# Altium schematic symbol library jumper1.SCHLIB: 67 symbols
Pins are listed as number, name and electrical type; pins without a type are passive.

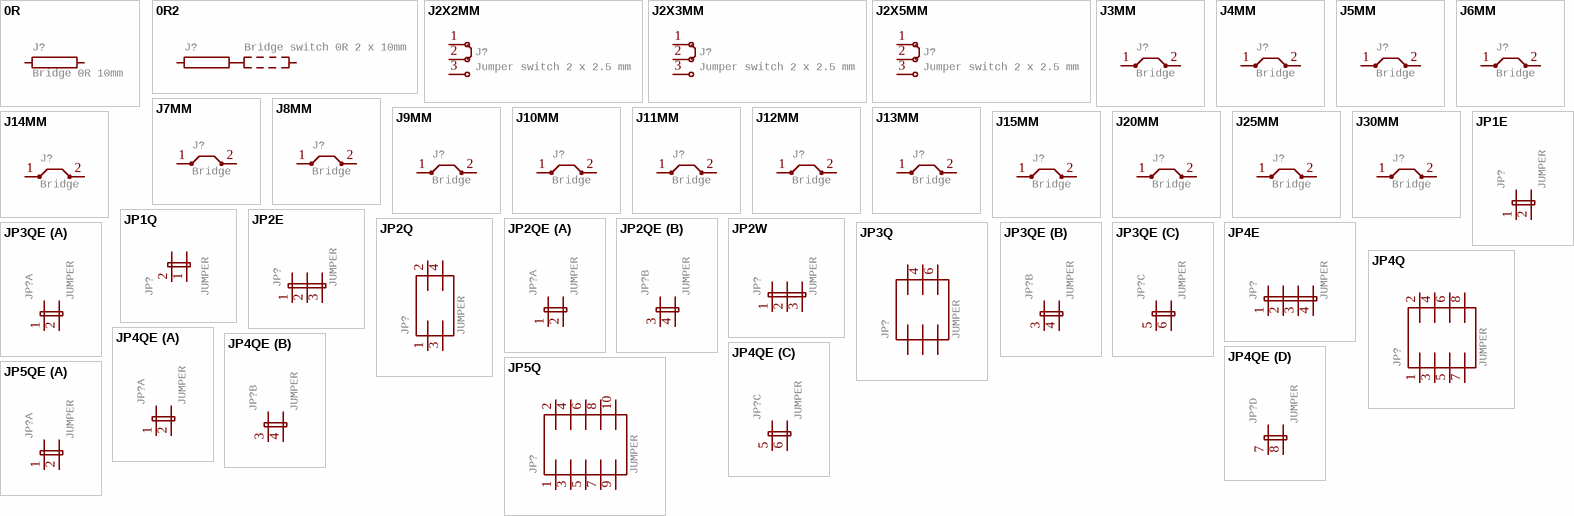
[diagram p0: symbols 0R to JP5QE]

## 0R
designator J?, comment Bridge 0R 10mm
GateName_1: 1; SymbolName_1: 0R; LibraryName: jumper; DeviceSetName: 0R; Package: 0R/10
footprint 0R/10
pins: 1, 2

## 0R2
designator J?, comment Bridge switch 0R 2 x 10mm
GateName_1: 1; SymbolName_1: 0R2; LibraryName: jumper; DeviceSetName: 0R2; Package: 0R2/10
footprint 0R2/10
pins: 1, 2, 3

## J2X2MM
designator J?, comment Jumper switch 2 x 2.5 mm
GateName_1: G$1; SymbolName_1: J_2; DeviceName: X2MM; DeviceSetName: J2; LibraryName: jumper; Package: 04C
footprint 04C
pins: 1, 2, 3

## J2X3MM
designator J?, comment Jumper switch 2 x 2.5 mm
GateName_1: G$1; SymbolName_1: J_2; DeviceName: X3MM; DeviceSetName: J2; LibraryName: jumper; Package: 03C
footprint 03C
pins: 1, 2, 3

## J2X5MM
designator J?, comment Jumper switch 2 x 2.5 mm
GateName_1: G$1; SymbolName_1: J_2; DeviceName: X5MM; DeviceSetName: J2; LibraryName: jumper; Package: 05C
footprint 05C
pins: 1, 2, 3

## J3MM
designator J?, comment Bridge
GateName_1: 1; SymbolName_1: J; DeviceName: 3MM; LibraryName: jumper; DeviceSetName: J; Package: 03
footprint 03
pins: 1, 2

## J4MM
designator J?, comment Bridge
GateName_1: 1; SymbolName_1: J; DeviceName: 4MM; LibraryName: jumper; DeviceSetName: J; Package: 04
footprint 04
pins: 1, 2

## J5MM
designator J?, comment Bridge
GateName_1: 1; SymbolName_1: J; DeviceName: 5MM; LibraryName: jumper; DeviceSetName: J; Package: 05
footprint 05
pins: 1, 2

## J6MM
designator J?, comment Bridge
GateName_1: 1; SymbolName_1: J; DeviceName: 6MM; LibraryName: jumper; DeviceSetName: J; Package: 06
footprint 06
pins: 1, 2

## J7MM
designator J?, comment Bridge
GateName_1: 1; SymbolName_1: J; DeviceName: 7MM; LibraryName: jumper; DeviceSetName: J; Package: 07
footprint 07
pins: 1, 2

## J8MM
designator J?, comment Bridge
GateName_1: 1; SymbolName_1: J; DeviceName: 8MM; LibraryName: jumper; DeviceSetName: J; Package: 08
footprint 08
pins: 1, 2

## J9MM
designator J?, comment Bridge
GateName_1: 1; SymbolName_1: J; DeviceName: 9MM; LibraryName: jumper; DeviceSetName: J; Package: 09
footprint 09
pins: 1, 2

## J10MM
designator J?, comment Bridge
GateName_1: 1; SymbolName_1: J; DeviceName: 10MM; LibraryName: jumper; DeviceSetName: J; Package: 10
footprint 10
pins: 1, 2

## J11MM
designator J?, comment Bridge
GateName_1: 1; SymbolName_1: J; DeviceName: 11MM; LibraryName: jumper; DeviceSetName: J; Package: 11
footprint 11
pins: 1, 2

## J12MM
designator J?, comment Bridge
GateName_1: 1; SymbolName_1: J; DeviceName: 12MM; LibraryName: jumper; DeviceSetName: J; Package: 12
footprint 12
pins: 1, 2

## J13MM
designator J?, comment Bridge
GateName_1: 1; SymbolName_1: J; DeviceName: 13MM; LibraryName: jumper; DeviceSetName: J; Package: 13
footprint 13
pins: 1, 2

## J14MM
designator J?, comment Bridge
GateName_1: 1; SymbolName_1: J; DeviceName: 14MM; LibraryName: jumper; DeviceSetName: J; Package: 14
footprint 14
pins: 1, 2

## J15MM
designator J?, comment Bridge
GateName_1: 1; SymbolName_1: J; DeviceName: 15MM; LibraryName: jumper; DeviceSetName: J; Package: 15
footprint 15
pins: 1, 2

## J20MM
designator J?, comment Bridge
GateName_1: 1; SymbolName_1: J; DeviceName: 20MM; LibraryName: jumper; DeviceSetName: J; Package: 20
footprint 20
pins: 1, 2

## J25MM
designator J?, comment Bridge
GateName_1: 1; SymbolName_1: J; DeviceName: 25MM; LibraryName: jumper; DeviceSetName: J; Package: 25
footprint 25
pins: 1, 2

## J30MM
designator J?, comment Bridge
GateName_1: 1; SymbolName_1: J; DeviceName: 30MM; LibraryName: jumper; DeviceSetName: J; Package: 30
footprint 30
pins: 1, 2

## JP1E
designator JP?, comment JUMPER
GateName_1: A; SymbolName_1: JP2E; DeviceSetName: JP1E; LibraryName: jumper; Package: JP1
footprint JP1
pins: 1, 2

## JP1Q
designator JP?, comment JUMPER
GateName_1: A; SymbolName_1: J1; DeviceSetName: JP1Q; LibraryName: jumper; Package: JP1
footprint JP1
pins: 1, 2

## JP2E
designator JP?, comment JUMPER
GateName_1: 1; SymbolName_1: JP3E; DeviceSetName: JP2E; LibraryName: jumper; Package: JP2
footprint JP2
pins: 1, 2, 3

## JP2Q
designator JP?, comment JUMPER
GateName_1: B1; SymbolName_1: J2; DeviceSetName: JP2Q; LibraryName: jumper; Package: JP2Q
footprint JP2Q
pins: 1, 2, 3, 4

## JP2QE
designator JP?, comment JUMPER
GateName_1: -1; SymbolName_1: JP2E; GateName_2: -2; DeviceSetName: JP2QE; SymbolName_2: JP2E; LibraryName: jumper; Package: JP2Q
footprint JP2Q
part A pins: 1, 2
part B pins: 3 1, 4 2

## JP2W
designator JP?, comment JUMPER
GateName_1: 1; SymbolName_1: JP3E; DeviceSetName: JP2W; LibraryName: jumper; Package: JP2W
footprint JP2W
pins: 1, 2, 3

## JP3Q
designator JP?, comment JUMPER
GateName_1: B; SymbolName_1: J3; DeviceSetName: JP3Q; LibraryName: jumper; Package: JP3Q
footprint JP3Q
pins: 1, 2, 3, 4, 5, 6

## JP3QE
designator JP?, comment JUMPER
GateName_1: -1; SymbolName_1: JP2E; GateName_2: -2; GateName_3: -3; DeviceSetName: JP3QE; SymbolName_2: JP2E; SymbolName_3: JP2E; LibraryName: jumper; Package: JP3Q
footprint JP3Q
part A pins: 1, 2
part B pins: 3 1, 4 2
part C pins: 5 1, 6 2

## JP4E
designator JP?, comment JUMPER
GateName_1: G$1; SymbolName_1: JP4E; LibraryName: jumper; DeviceSetName: JP4E; Package: JP4
footprint JP4
pins: 1, 2, 3, 4

## JP4Q
designator JP?, comment JUMPER
GateName_1: B; SymbolName_1: J4; DeviceSetName: JP4Q; LibraryName: jumper; Package: JP4Q
footprint JP4Q
pins: 1, 2, 3, 4, 5, 6, 7, 8

## JP4QE
designator JP?, comment JUMPER
GateName_1: -1; SymbolName_1: JP2E; GateName_2: -2; GateName_3: -3; GateName_4: -4; DeviceSetName: JP4QE; SymbolName_2: JP2E; SymbolName_3: JP2E; SymbolName_4: JP2E; LibraryName: jumper; Package: JP4Q
footprint JP4Q
part A pins: 1, 2
part B pins: 3 1, 4 2
part C pins: 5 1, 6 2
part D pins: 7 1, 8 2

## JP5Q
designator JP?, comment JUMPER
GateName_1: B; SymbolName_1: J5; DeviceSetName: JP5Q; LibraryName: jumper; Package: JP5Q
footprint JP5Q
pins: 1, 2, 3, 4, 5, 6, 7, 8, 9, 10

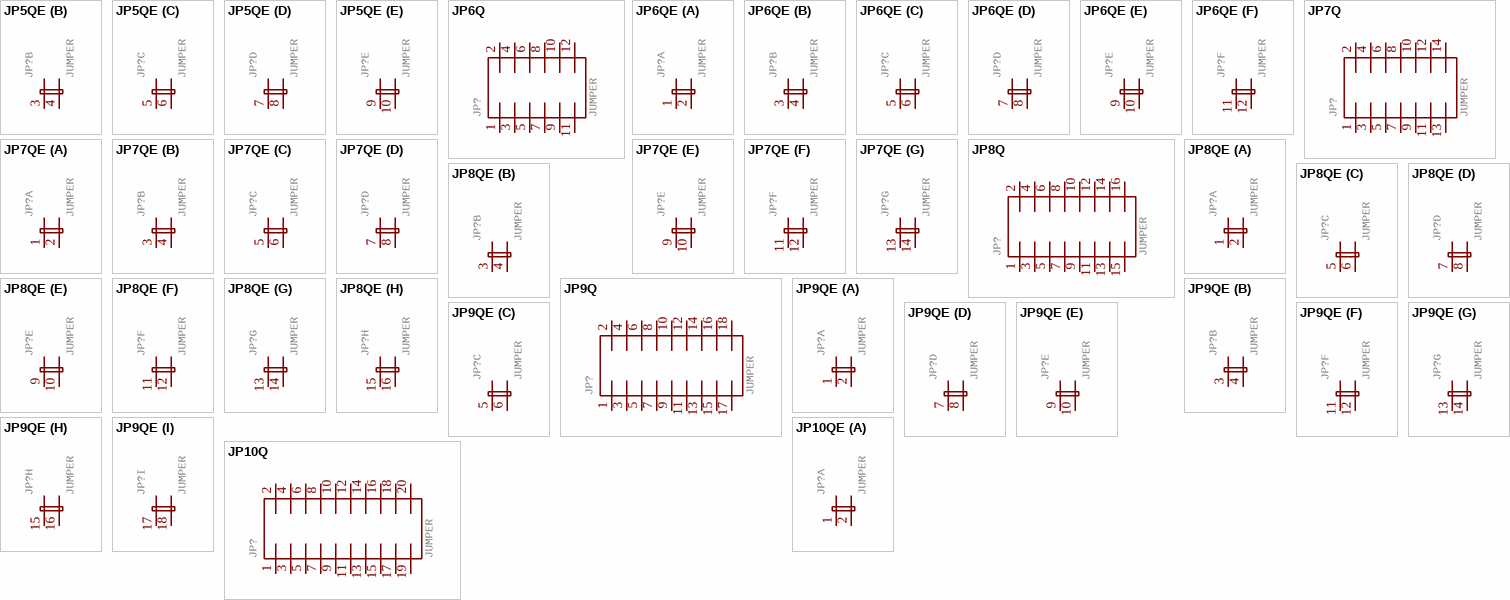
[diagram p1: symbols JP5QE to JP10QE]

## JP5QE
designator JP?, comment JUMPER
GateName_1: -1; SymbolName_1: JP2E; GateName_2: -2; GateName_3: -3; GateName_4: -4; GateName_5: -5; DeviceSetName: JP5QE; SymbolName_2: JP2E; SymbolName_3: JP2E; SymbolName_4: JP2E; SymbolName_5: JP2E; LibraryName: jumper; Package: JP5Q
footprint JP5Q
part A pins: 1, 2
part B pins: 3 1, 4 2
part C pins: 5 1, 6 2
part D pins: 7 1, 8 2
part E pins: 9 1, 10 2

## JP6Q
designator JP?, comment JUMPER
GateName_1: B; SymbolName_1: J6; DeviceSetName: JP6Q; LibraryName: jumper; Package: JP6Q
footprint JP6Q
pins: 1, 2, 3, 4, 5, 6, 7, 8, 9, 10, 11, 12

## JP6QE
designator JP?, comment JUMPER
GateName_1: -1; SymbolName_1: JP2E; GateName_2: -2; GateName_3: -3; GateName_4: -4; GateName_5: -5; GateName_6: -6; DeviceSetName: JP6QE; SymbolName_2: JP2E; SymbolName_3: JP2E; SymbolName_4: JP2E; SymbolName_5: JP2E; SymbolName_6: JP2E; LibraryName: jumper; Package: JP6Q
footprint JP6Q
part A pins: 1, 2
part B pins: 3 1, 4 2
part C pins: 5 1, 6 2
part D pins: 7 1, 8 2
part E pins: 9 1, 10 2
part F pins: 11 1, 12 2

## JP7Q
designator JP?, comment JUMPER
GateName_1: B; SymbolName_1: J7; DeviceSetName: JP7Q; LibraryName: jumper; Package: JP7Q
footprint JP7Q
pins: 1, 2, 3, 4, 5, 6, 7, 8, 9, 10, 11, 12, 13, 14

## JP7QE
designator JP?, comment JUMPER
GateName_1: -1; SymbolName_1: JP2E; GateName_2: -2; GateName_3: -3; GateName_4: -4; GateName_5: -5; GateName_6: -6; GateName_7: -7; DeviceSetName: JP7QE; SymbolName_2: JP2E; SymbolName_3: JP2E; SymbolName_4: JP2E; SymbolName_5: JP2E; SymbolName_6: JP2E; SymbolName_7: JP2E; LibraryName: jumper; Package: JP7Q
footprint JP7Q
part A pins: 1, 2
part B pins: 3 1, 4 2
part C pins: 5 1, 6 2
part D pins: 7 1, 8 2
part E pins: 9 1, 10 2
part F pins: 11 1, 12 2
part G pins: 13 1, 14 2

## JP8Q
designator JP?, comment JUMPER
GateName_1: B; SymbolName_1: J8; DeviceSetName: JP8Q; LibraryName: jumper; Package: JP8Q
footprint JP8Q
pins: 1, 2, 3, 4, 5, 6, 7, 8, 9, 10, 11, 12, 13, 14, 15, 16

## JP8QE
designator JP?, comment JUMPER
GateName_1: -1; SymbolName_1: JP2E; GateName_2: -2; GateName_3: -3; GateName_4: -4; GateName_5: -5; GateName_6: -6; GateName_7: -7; GateName_8: -8; DeviceSetName: JP8QE; SymbolName_2: JP2E; SymbolName_3: JP2E; SymbolName_4: JP2E; SymbolName_5: JP2E; SymbolName_6: JP2E; SymbolName_7: JP2E; SymbolName_8: JP2E; LibraryName: jumper; Package: JP8Q
footprint JP8Q
part A pins: 1, 2
part B pins: 3 1, 4 2
part C pins: 5 1, 6 2
part D pins: 7 1, 8 2
part E pins: 9 1, 10 2
part F pins: 11 1, 12 2
part G pins: 13 1, 14 2
part H pins: 15 1, 16 2

## JP9Q
designator JP?, comment JUMPER
GateName_1: B; SymbolName_1: J9; DeviceSetName: JP9Q; LibraryName: jumper; Package: JP9Q
footprint JP9Q
pins: 1, 2, 3, 4, 5, 6, 7, 8, 9, 10, 11, 12, 13, 14, 15, 16, 17, 18

## JP9QE
designator JP?, comment JUMPER
GateName_1: -1; SymbolName_1: JP2E; GateName_2: -2; GateName_3: -3; GateName_4: -4; GateName_5: -5; GateName_6: -6; GateName_7: -7; GateName_8: -8; GateName_9: -9; DeviceSetName: JP9QE; SymbolName_2: JP2E; SymbolName_3: JP2E; SymbolName_4: JP2E; SymbolName_5: JP2E; SymbolName_6: JP2E; SymbolName_7: JP2E; SymbolName_8: JP2E; SymbolName_9: JP2E; LibraryName: jumper; Package: JP9Q
footprint JP9Q
part A pins: 1, 2
part B pins: 3 1, 4 2
part C pins: 5 1, 6 2
part D pins: 7 1, 8 2
part E pins: 9 1, 10 2
part F pins: 11 1, 12 2
part G pins: 13 1, 14 2
part H pins: 15 1, 16 2
part I pins: 17 1, 18 2

## JP10Q
designator JP?, comment JUMPER
GateName_1: B; SymbolName_1: J10; DeviceSetName: JP10Q; LibraryName: jumper; Package: JP10Q
footprint JP10Q
pins: 1, 2, 3, 4, 5, 6, 7, 8, 9, 10, 11, 12, 13, 14, 15, 16, 17, 18, 19, 20

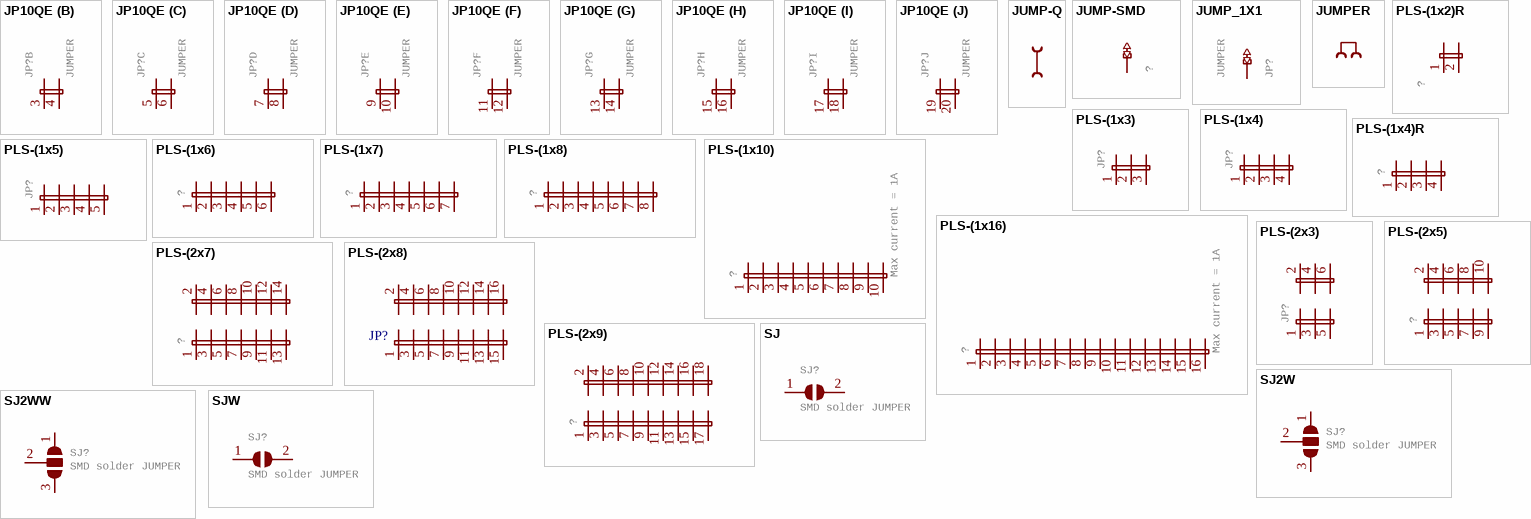
[diagram p2: symbols JP10QE to SJW]

## JP10QE
designator JP?, comment JUMPER
GateName_1: -1; SymbolName_1: JP2E; GateName_2: -2; GateName_3: -3; GateName_4: -4; GateName_5: -5; GateName_6: -6; GateName_7: -7; GateName_8: -8; GateName_9: -9; GateName_10: -10; DeviceSetName: JP10QE; SymbolName_2: JP2E; SymbolName_3: JP2E; SymbolName_4: JP2E; SymbolName_5: JP2E; SymbolName_6: JP2E; SymbolName_7: JP2E; SymbolName_8: JP2E; SymbolName_9: JP2E; SymbolName_10: JP2E; LibraryName: jumper; Package: JP10Q
footprint JP10Q
part A pins: 1, 2
part B pins: 3 1, 4 2
part C pins: 5 1, 6 2
part D pins: 7 1, 8 2
part E pins: 9 1, 10 2
part F pins: 11 1, 12 2
part G pins: 13 1, 14 2
part H pins: 15 1, 16 2
part I pins: 17 1, 18 2
part J pins: 19 1, 20 2

## JUMP-Q
designator J?, comment JUMPER header  (value not drawn)
GateName_1: G$1; SymbolName_1: JUMP1; DeviceSetName: JUMP-Q; LibraryName: jumper; Package: JUMP
footprint JUMP

## JUMP-SMD
designator ?
GateName_1: G$1; SymbolName_1: JUMP_1X1; DeviceSetName: JUMP-SMD; LibraryName: jumper; Package: JUMP-SMD
footprint JUMP-SMD
pins: P$1 1 (io)

## JUMP_1X1
designator JP?, comment JUMPER
GateName_1: G$1; SymbolName_1: JUMP_1X1; LibraryName: jumper; DeviceSetName: JUMP_1X1; Package: JUMP_1X1
footprint JUMP_1X1
pins: 2 1 (io)

## JUMPER
designator J?, comment JUMPER header  (value not drawn)
GateName_1: B1; SymbolName_1: JUMP; LibraryName: jumper; DeviceSetName: JUMPER; Package: JUMP
footprint JUMP

## PLS-(1х2)R
designator ?
GateName_1: G$1; SymbolName_1: J1; DeviceSetName: PLS-(1х2)R; LibraryName: jumper; Package: PLS-(1х2)R
footprint PLS-(1х2)R
pins: 1 2, 2 1

## PLS-(1х3)
designator JP?
GateName_1: G$1; SymbolName_1: PLS-(1х3); LibraryName: jumper; DeviceSetName: PLS-(1х3); Package: PLS-(1х3)
footprint PLS-(1х3)
pins: 1, 2, 3

## PLS-(1х4)
designator JP?
GateName_1: G$1; SymbolName_1: PLS-(1х4); LibraryName: jumper; DeviceSetName: PLS-(1х4); Package: PLS-(1х4)
footprint PLS-(1х4)
pins: 1, 2, 3, 4

## PLS-(1х4)R
designator ?
GateName_1: G$1; SymbolName_1: PLS-(1х4); DeviceSetName: PLS-(1х4)R; LibraryName: jumper; Package: PLS-(1х4)R
footprint PLS-(1х4)R
pins: 1, 2, 3, 4

## PLS-(1х5)
designator JP?
GateName_1: G$1; SymbolName_1: PLS-(1х5); LibraryName: jumper; DeviceSetName: PLS-(1х5); Package: PLS-(1х5)
footprint PLS-(1х5)
pins: 1, 2, 3, 4, 5

## PLS-(1х6)
designator ?
GateName_1: G$1; SymbolName_1: PLS-(1х6); LibraryName: jumper; DeviceSetName: PLS-(1х6); Package: PLS-(1х6)
footprint PLS-(1х6)
pins: 1, 2, 3, 4, 5, 6

## PLS-(1х7)
designator ?
GateName_1: G$1; SymbolName_1: PLS-(1х7); LibraryName: jumper; DeviceSetName: PLS-(1х7); Package: PLS-(1х7)
footprint PLS-(1х7)
pins: 1, 2, 3, 4, 5, 6, 7

## PLS-(1х8)
designator ?
GateName_1: G$1; SymbolName_1: PLS-(1х8); LibraryName: jumper; DeviceSetName: PLS-(1х8); Package: PLS-(1х8)
footprint PLS-(1х8)
pins: 1, 2, 3, 4, 5, 6, 7, 8

## PLS-(1х10)
designator ?, comment Max current = 1A
GateName_1: G$1; SymbolName_1: PLS-(1х10); LibraryName: jumper; DeviceSetName: PLS-(1х10); Package: PLS-(1х10)
footprint PLS-(1х10)
pins: 1, 2, 3, 4, 5, 6, 7, 8, 9, 10

## PLS-(1х16)
designator ?, comment Max current = 1A
GateName_1: G$1; SymbolName_1: PLS-(1х16); LibraryName: jumper; DeviceSetName: PLS-(1х16); Package: PLS-(1х16)
footprint PLS-(1х16)
pins: 1, 2, 3, 4, 5, 6, 7, 8, 9, 10, 11, 12, 13, 14, 15, 16

## PLS-(2х3)
designator JP?
GateName_1: G$1; SymbolName_1: PLS-(2х3); LibraryName: jumper; DeviceSetName: PLS-(2х3); Package: PLS-(2х3)
footprint PLS-(2х3)
pins: 1, 2, 3, 4, 5, 6

## PLS-(2х5)
designator ?
GateName_1: G$1; SymbolName_1: PLS-(2х5); LibraryName: jumper; DeviceSetName: PLS-(2х5); Package: PLS-(2х5)
footprint PLS-(2х5)
pins: 1, 2, 3, 4, 5, 6, 7, 8, 9, 10

## PLS-(2х7)
designator ?
GateName_1: G$1; SymbolName_1: PLS-(2х7); LibraryName: jumper; DeviceSetName: PLS-(2х7); Package: PLS-(2х7)
footprint PLS-(2х7)
pins: 1, 2, 3, 4, 5, 6, 7, 8, 9, 10, 11, 12, 13, 14

## PLS-(2х8)
designator JP?
GateName_1: G$1; SymbolName_1: PLS-(2х8); LibraryName: jumper; DeviceSetName: PLS-(2х8); Package: PLS-(2х8)
footprint PLS-(2x8)
pins: 1, 2, 3, 4, 5, 6, 7, 8, 9, 10, 11, 12, 13, 14, 15, 16

## PLS-(2х9)
designator ?
GateName_1: G$1; SymbolName_1: PLS-(2х9); LibraryName: jumper; DeviceSetName: PLS-(2х9); Package: PLS-(2х9)
footprint PLS-(2х9)
pins: 1, 2, 3, 4, 5, 6, 7, 8, 9, 10, 11, 12, 13, 14, 15, 16, 17, 18

## SJ
designator SJ?, comment SMD solder JUMPER
GateName_1: 1; SymbolName_1: SJ; LibraryName: jumper; DeviceSetName: SJ; Package: SJ
footprint SJ
pins: 1, 2

## SJ2W
designator SJ?, comment SMD solder JUMPER
GateName_1: G$1; SymbolName_1: SJ_2; DeviceSetName: SJ2W; LibraryName: jumper; Package: SJ_2
footprint SJ_2
pins: 1, 2, 3

## SJ2WW
designator SJ?, comment SMD solder JUMPER
GateName_1: G$1; SymbolName_1: SJ_2; DeviceName: W; DeviceSetName: SJ2W; LibraryName: jumper; Package: SJ_2W
footprint SJ_2W
pins: 1, 2, 3

## SJW
designator SJ?, comment SMD solder JUMPER
GateName_1: 1; SymbolName_1: SJ; DeviceName: W; LibraryName: jumper; DeviceSetName: SJ; Package: SJW
footprint SJW
pins: 1, 2